# Altium schematic symbol library InverterSCHLib.SchLib: 137 symbols (part 4 of 5)
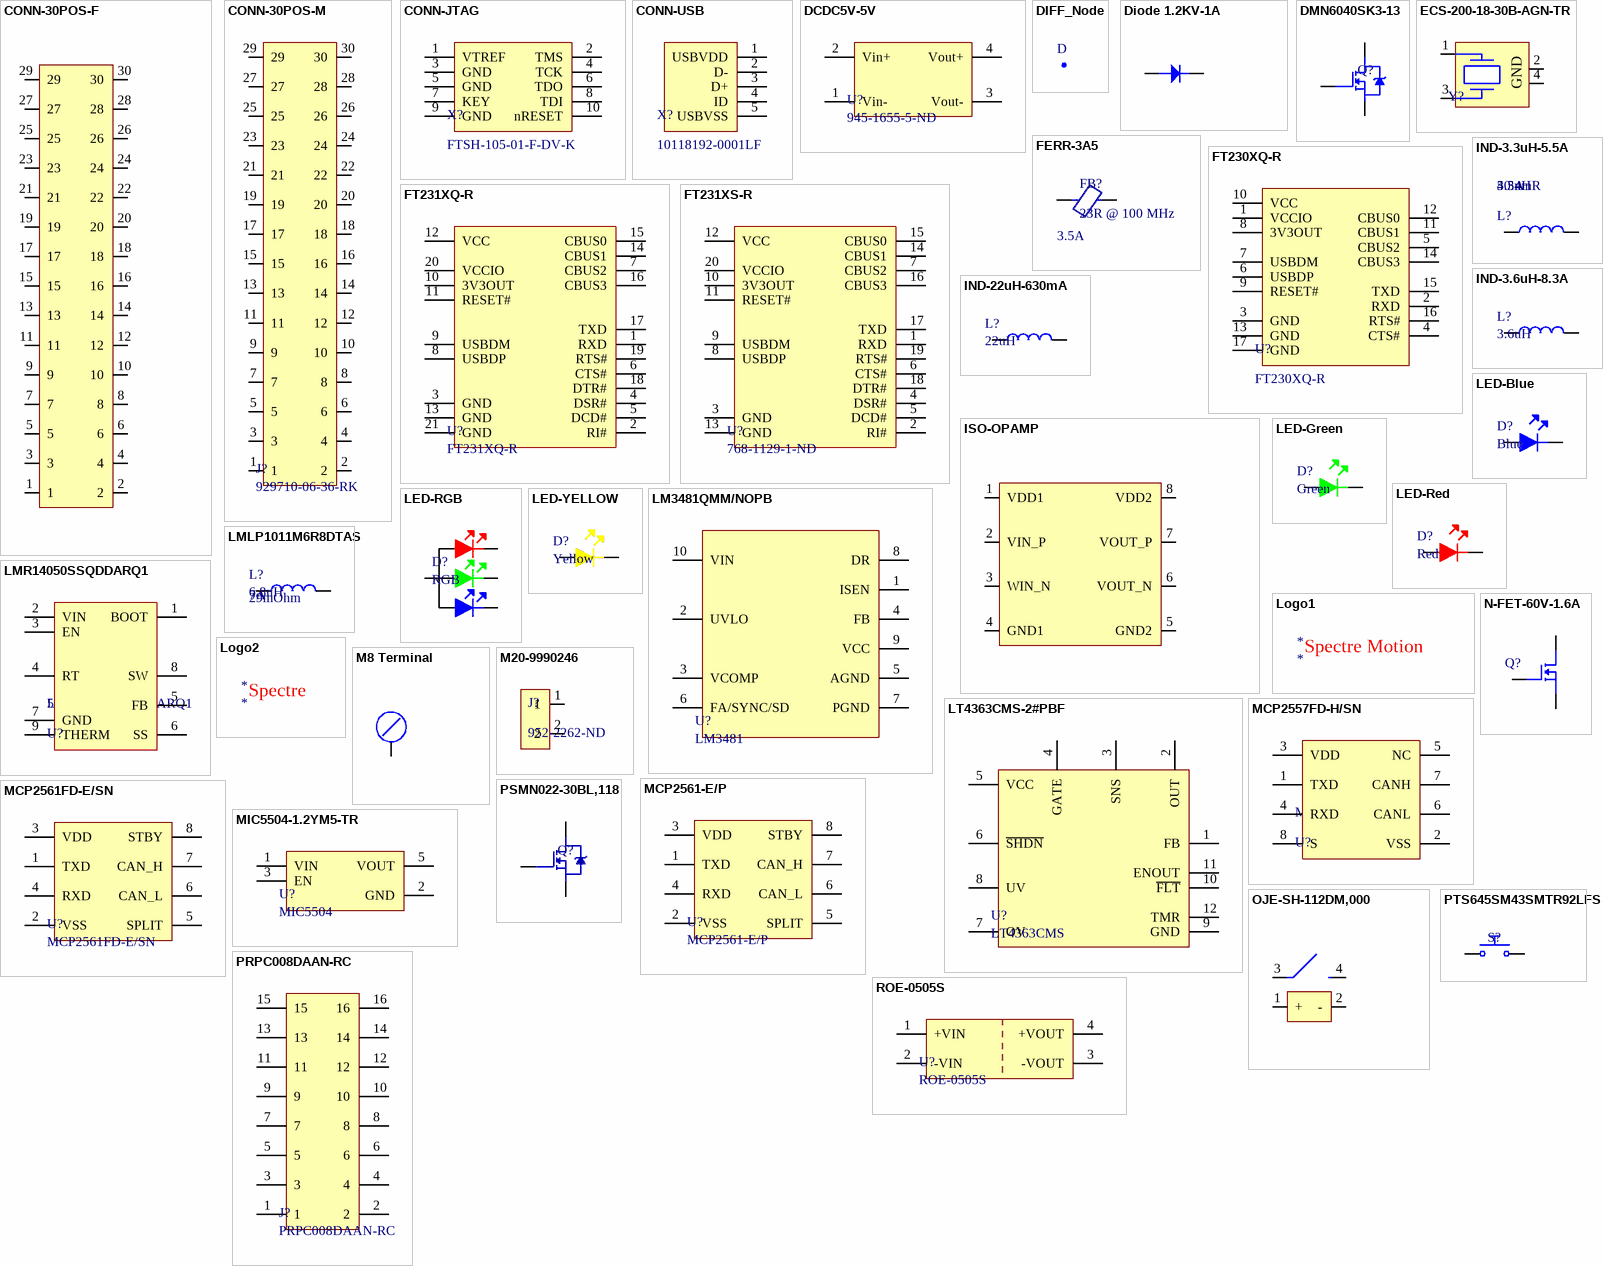
[diagram p6: symbols CONN-30POS-F to ROE-0505S]

## ISO-OPAMP
designator U?, comment AMC1200BDUBR
IC OPAMP ISOLATION 1 CIRC 8SOP; Manufacturer: Texas Instruments; Number of Channels: 1; Common Mode Rejection Ratio: 95dB; Operating Supply Voltage: 5.5V; -3db Bandwidth: 100kHz; Nominal Supply Current: 5.4mA; Output Current: 20mA; Max Input Voltage: 320mV; Input Offset Voltage (Vos): 200uV; Power Dissipation: 44mW; Power Supply Rejection Ratio (PSRR): 61dB; Dual Supply Voltage: 5V; Power Consumption: 82.5mW; Supplier 1: Digi-Key; Manufacturer Part Number: AMC1200BDUBR; Stock 1: 0; Pricing 1: 1=4.92, 10=4.415, 25=4.1736, 100=3.6172 (USD); Mount: Surface Mount; Case/Package: SOP; Number of Pins: 8; Min Operating Temperature: -40°C; Max Operating Temperature: 105°C; Max Dual Supply Voltage: 5.5V; Packaging: Tape and Reel; Package Quantity: 350; Bandwidth: 100kHz; Number of Circuits: 1; Operating Supply Current: 5.4mA; Output Current per Channel: 20mA; Max Power Dissipation: 44mW; Number of Elements: 1; Series: -; Amplifier Type: ISOLATION; Supply Current: 5.4mA; Lead Free: Lead Free; RoHS Compliant: Yes; ComponentLink1URL: http://www.ti.com/general/docs/lit/getliterature.tsp?genericPartNumber=AMC1200&&fileType=pdf&src-supplier=Avnet; ComponentLink1Description: http://www.ti.com/general/docs/lit/getliterature.tsp?genericPartNumber=AMC1200&&fileType=pdf&src-supplier=Avnet; ComponentLink2URL: http://www.ti.com/lit/ds/symlink/amc1200.pdf?src-supplier=Digi-Key; ComponentLink2Description: http://www.ti.com/lit/ds/symlink/amc1200.pdf?src-supplier=Digi-Key; Supplier Part Number 1: 296-38868-6-ND
footprint 8-SOP (SOP, 8-Leads, Body 9.29x6.62mm, Pitch 2.54mm, IPC Medium Density)
pins: 1 VDD1, 2 VIN_P, 3 WIN_N, 4 GND1, 5 GND2, 6 VOUT_N, 7 VOUT_P, 8 VDD2

## LED-Blue
designator D?, comment Blue
LED BLUE CLEAR 0603 SMD; Manufacturer: Wurth Electronics; Manufacturer Part Number: 150060BS75000; Luminous Intensity: 145mcd; Forward Current: 30mA; Forward Voltage: 3.2V; Wavelength: 470nm; Viewing Angle: 140°; Lens Style: Clear,Rectangular; Test Current: 20mA; Supplier 1: Digi-Key; Stock 1: 46078; Pricing 1: 1=0.16, 50=0.145, 100=0.125, 500=0.108 (USD); Mount: Surface Mount; Case/Package: 0603; Color: Blue; Case Code (Metric): 1608; Case Code (Imperial): 0603; Min Operating Temperature: -40°C; Max Operating Temperature: 85°C; Package Quantity: 4000; Packaging: Cut Tape; Dominant Wavelength: 470nm; Length: 1.6mm; Height: 0.7mm; Width: 0.8mm; REACH SVHC: Unknown; ComponentLink1URL: https://www.distrelec.biz/Web/Downloads/_t/ds/150060BS75000_eng_tds.pdf?mime=application%2Fpdf&src-supplier=Distrelec; ComponentLink1Description: https://www.distrelec.biz/Web/Downloads/_t/ds/150060BS75000_eng_tds.pdf?mime=application%2Fpdf&src-supplier=Distrelec; ComponentLink2URL: https://katalog.we-online.de/led/datasheet/150060BS75000.pdf?src-supplier=Digi-Key; ComponentLink2Description: https://katalog.we-online.de/led/datasheet/150060BS75000.pdf?src-supplier=Digi-Key; ComponentLink3URL: http://www.farnell.com/datasheets/1911343.pdf?src-supplier=Element14; ComponentLink3Description: http://www.farnell.com/datasheets/1911343.pdf?src-supplier=Element14; ComponentLink4URL: http://www.produktinfo.conrad.com/datenblaetter/750000-774999/759426-da-01-en-CHIPLED_0603_W_KL_BLAU_150060BS75000.pdf?src-supplier=Conrad; ComponentLink4Description: http://www.produktinfo.conrad.com/datenblaetter/750000-774999/759426-da-01-en-CHIPLED_0603_W_KL_BLAU_150060BS75000.pdf?src-supplier=Conrad; Supplier Part Number 1: 732-4966-6-ND
footprint LED-0603
pins: 1, 2

## LED-Green
designator D?, comment Green
LED GREEN CLEAR 0603 SMD; Manufacturer: Wurth Electronics; Manufacturer Part Number: 150060VS75000; Luminous Intensity: 40mcd; Viewing Angle: 140°; Forward Voltage: 2V; Wavelength: 570nm; Lens Style: Clear,Rectangular; Forward Current: 30mA; Test Current: 20mA; Supplier 1: Digi-Key; Stock 1: 118118; Pricing 1: 1=0.14, 50=0.133, 100=0.114, 500=0.099 (USD); Mount: Surface Mount; Case/Package: 0603; Number of Pins: 2; Color: Green; Case Code (Metric): 1608; Case Code (Imperial): 0603; Min Operating Temperature: -40°C; Max Operating Temperature: 85°C; Package Quantity: 1; Packaging: Tape and Reel; Dominant Wavelength: 570nm; Length: 1.6mm; Height: 0.7mm; Width: 0.8mm; REACH SVHC: Unknown; ComponentLink1URL: https://katalog.we-online.de/led/datasheet/150060VS75000.pdf?src-supplier=Digi-Key; ComponentLink1Description: https://katalog.we-online.de/led/datasheet/150060VS75000.pdf?src-supplier=Digi-Key; Supplier Part Number 1: 732-4980-1-ND
footprint LED-0603
pins: 1, 2

## LED-Red
designator D?, comment Red
LED RED CLEAR 0603 SMD; Manufacturer: Wurth Electronics; Manufacturer Part Number: 150060RS75000; Viewing Angle: 140°; Lens Style: Clear,Rectangular; Luminous Intensity: 250mcd; Forward Current: 30mA; Forward Voltage: 2V; Wavelength: 625nm; Test Current: 20mA; Supplier 1: Digi-Key; Stock 1: 18518; Pricing 1: 1=0.14, 50=0.133, 100=0.114, 500=0.099 (USD); Mount: Surface Mount; Case/Package: 0603; Color: Red; Case Code (Metric): 1608; Case Code (Imperial): 0603; Min Operating Temperature: -40°C; Max Operating Temperature: 85°C; Package Quantity: 1; Packaging: Cut Tape; Dominant Wavelength: 625nm; Length: 1.6mm; Height: 0.7mm; Width: 0.8mm; REACH SVHC: Unknown; ComponentLink1URL: https://katalog.we-online.de/led/datasheet/150060RS75000.pdf?src-supplier=Digi-Key; ComponentLink1Description: https://katalog.we-online.de/led/datasheet/150060RS75000.pdf?src-supplier=Digi-Key; ComponentLink2URL: http://www.produktinfo.conrad.com/datenblaetter/750000-774999/759428-da-01-en-CHIPLED_0603_W_KL_ROT_150060RS75000.pdf?src-supplier=Conrad; ComponentLink2Description: http://www.produktinfo.conrad.com/datenblaetter/750000-774999/759428-da-01-en-CHIPLED_0603_W_KL_ROT_150060RS75000.pdf?src-supplier=Conrad; Supplier Part Number 1: 732-4978-6-ND
footprint LED-0603
pins: 1, 2

## LED-RGB
designator D?, comment RGB
LED RGB CLEAR 4SMD; Manufacturer: Everlight; Manufacturer Part Number: EAST1616RGBB4; Color: Blue,Green,Red; Lens Color: Colorless; Lens Style: Flat; Element Configuration: Common Anode; Forward Voltage: 2.8V; Test Current: 5mA; Viewing Angle: 120°; Lens Size: 1.1mm; Supplier 1: Digi-Key; Stock 1: 11185; Pricing 1: 1=0.49, 10=0.343, 100=0.2003, 500=0.13736, 1000=0.11446 (USD); Mount: Surface Mount; Case/Package: 0606; Case Code (Imperial): 0606; Case Code (Metric): 1616; Packaging: Tape and Reel; Lens Transparency: Clear; Length: 1.6mm; Height: 0.45mm; Width: 1.6mm; ComponentLink1URL: https://everlightamericas.com/index.php?controller=attachment&amp;id_attachment=2827&src-supplier=Digi-Key; ComponentLink1Description: https://everlightamericas.com/index.php?controller=attachment&amp;id_attachment=2827&src-supplier=Digi-Key; ComponentLink2URL: https://everlightamericas.com/index.php?controller=attachment&id_attachment=2827&src-supplier=Digi-Key; ComponentLink2Description: https://everlightamericas.com/index.php?controller=attachment&id_attachment=2827&src-supplier=Digi-Key; Supplier Part Number 1: 1080-1552-6-ND
footprint LED-4SMD
pins: 1, 2, 3, 4

## LED-YELLOW
designator D?, comment Yellow
LED YELLOW CLEAR 0603 SMD; Manufacturer: Wurth Electronics; Manufacturer Part Number: 150060YS75000; Viewing Angle: 140°; Lens Style: Clear,Rectangular; Wavelength: 590nm; Luminous Intensity: 120mcd; Forward Voltage: 2V; Forward Current: 30mA; Test Current: 20mA; Supplier 1: Digi-Key; Stock 1: 129164; Pricing 1: 1=0.14, 50=0.133, 100=0.114, 500=0.099 (USD); Mount: Surface Mount; Case/Package: 0603; Case Code (Metric): 1608; Case Code (Imperial): 0603; Color: Yellow; Min Operating Temperature: -40°C; Max Operating Temperature: 85°C; Package Quantity: 4000; Packaging: Tape and Reel; Dominant Wavelength: 590nm; Length: 1.6mm; Width: 0.8mm; Height: 0.7mm; REACH SVHC: Unknown; RoHS Compliant: Yes; ComponentLink1URL: http://www.farnell.com/datasheets/1911348.pdf?src-supplier=Element14; ComponentLink1Description: http://www.farnell.com/datasheets/1911348.pdf?src-supplier=Element14; ComponentLink2URL: https://www.distrelec.biz/Web/Downloads/_t/ds/150060YS75000_eng_tds.pdf?mime=application%2Fpdf&src-supplier=Distrelec; ComponentLink2Description: https://www.distrelec.biz/Web/Downloads/_t/ds/150060YS75000_eng_tds.pdf?mime=application%2Fpdf&src-supplier=Distrelec; ComponentLink3URL: https://katalog.we-online.de/led/datasheet/150060YS75000.pdf?src-supplier=Digi-Key; ComponentLink3Description: https://katalog.we-online.de/led/datasheet/150060YS75000.pdf?src-supplier=Digi-Key; ComponentLink4URL: http://katalog.we-online.de/led/datasheet/150060YS75000.pdf?src-supplier=Newark; ComponentLink4Description: http://katalog.we-online.de/led/datasheet/150060YS75000.pdf?src-supplier=Newark; ComponentLink5URL: http://www.produktinfo.conrad.com/datenblaetter/750000-774999/759432-da-01-en-CHIPLED_0603_W_KL_GELB_150060YS75000.pdf?src-supplier=Conrad; ComponentLink5Description: http://www.produktinfo.conrad.com/datenblaetter/750000-774999/759432-da-01-en-CHIPLED_0603_W_KL_GELB_150060YS75000.pdf?src-supplier=Conrad; Supplier Part Number 1: 732-4981-1-ND
footprint LED-0603
pins: 1, 2

## LM3481QMM/NOPB
designator U?, comment LM3481
IC REG CTRLR MULT TOP 10MSOP; Manufacturer: TI National Semiconductor; Manufacturer Part Number: LM3481QMM/NOPB; Switching Frequency: 1MHz; Output Current: 1A; Number of Outputs: 1; Duty Cycle: 85%; Min Supply Voltage: 2.97V; Max Supply Voltage: 48V; Quiescent Current: 3.7mA; Supplier 1: Digi-Key; Stock 1: 0; Pricing 1: 1=2.02, 10=1.812, 25=1.7092, 100=1.4563, 250=1.3674, 500=1.19648 (USD); Mount: Surface Mount; Case/Package: VSSOP; Number of Pins: 10; Contact Plating: Tin; Min Operating Temperature: -40°C; Max Operating Temperature: 125°C; Packaging: Tape and Reel; Package Quantity: 1000; Series: LM3481-Q1; Max Frequency: 1MHz; Max Duty Cycle: 85%; Max Output Current: 1A; Features: UVLO; Radiation Hardening: No; REACH SVHC: No SVHC; RoHS Compliant: Yes; Lead Free: Lead Free; ComponentLink1URL: http://www.ti.com/general/docs/lit/getliterature.tsp?genericPartNumber=LM3481-Q1&&fileType=pdf&src-supplier=Avnet; ComponentLink1Description: http://www.ti.com/general/docs/lit/getliterature.tsp?genericPartNumber=LM3481-Q1&&fileType=pdf&src-supplier=Avnet; ComponentLink2URL: http://www.ti.com/lit/ds/symlink/lm3481.pdf?src-supplier=Digi-Key; ComponentLink2Description: http://www.ti.com/lit/ds/symlink/lm3481.pdf?src-supplier=Digi-Key; ComponentLink3URL: http://www.ti.com/general/docs/suppproductinfo.tsp?distId=10&amp;gotoUrl=http%3A%2F%2Fwww.ti.com%2Flit%2Fgpn%2Flm3481&src-supplier=Digi-Key; ComponentLink3Description: http://www.ti.com/general/docs/suppproductinfo.tsp?distId=10&amp;gotoUrl=http%3A%2F%2Fwww.ti.com%2Flit%2Fgpn%2Flm3481&src-supplier=Digi-Key; Supplier Part Number 1: LM3481QMM/NOPBDKR-ND
footprint 10-VSSOP-REGULATOR (TSSOP, 10-Leads, Body 3.00x3.00mm, Pitch 0.50mm, IPC Medium Density)
pins: 1 ISEN, 2 UVLO, 3 VCOMP, 4 FB, 5 AGND, 6 FA/SYNC/SD, 7 PGND, 8 DR, 9 VCC, 10 VIN

## LMLP1011M6R8DTAS
designator L?, comment 6.8uH  DC Resistance: 29mOhm  Current Rating: 7A
FIXED IND 6.8UH 6.5A 25MOHM SMD; Manufacturer: Kyocera AVX; Manufacturer Part Number: LMLP1011M6R8DTAS; Current - Saturation: 9A; Supplier 1: Digi-Key; Stock 1: 488; Pricing 1: 1=0.94, 10=0.827, 25=0.768, 50=0.6496, 100=0.5906, 250=0.5552 (USD); RoHS Compliant: Yes; Supplier Part Number 1: 478-LMLP1011M6R8DTASCT-ND
footprint INDM112100X40N (Molded Inductor, 2-Leads, Body 11.15x10.00mm, IPC Medium Density)
pins: 1, 2

## LMR14050SSQDDARQ1
designator U?  Output Current: 5A  Manufacturer Part Number: LMR14050SSQDDARQ1  (hidden comment: *)
IC REG BUCK ADJUSTABLE 5A 8SOPWR; Manufacturer: Texas Instruments; Number of Outputs: 1; Min Input Voltage: 4V; Max Input Voltage: 40V; Min Output Voltage: 800mV; Max Output Voltage: 28V; Switching Frequency: 2.5MHz; Synchronous Rectifier: No; Quiescent Current: 40uA; Output Configuration: Positive; Supplier 1: Digi-Key; Stock 1: 3564; Pricing 1: 1=3.5, 10=3.143, 25=2.9716, 100=2.5755, 250=2.4434, 500=2.19246, 1000=2.08082 (USD); Mount: Surface Mount; Case/Package: SOIC; Min Operating Temperature: -40°C; Max Operating Temperature: 125°C; Packaging: Tape and Reel; Output Type: Adjustable; Lead Free: Lead Free; RoHS Compliant: Yes; ComponentLink1URL: http://www.ti.com/lit/ds/symlink/lmr14050-q1.pdf?src-supplier=Digi-Key; ComponentLink1Description: http://www.ti.com/lit/ds/symlink/lmr14050-q1.pdf?src-supplier=Digi-Key; ComponentLink2URL: http://www.ti.com/general/docs/suppproductinfo.tsp?distId=10&amp;gotoUrl=http%3A%2F%2Fwww.ti.com%2Flit%2Fgpn%2Flmr14050-q1&src-supplier=Digi-Key; ComponentLink2Description: http://www.ti.com/general/docs/suppproductinfo.tsp?distId=10&amp;gotoUrl=http%3A%2F%2Fwww.ti.com%2Flit%2Fgpn%2Flmr14050-q1&src-supplier=Digi-Key; ComponentLink3URL: http://www.ti.com/lit/gpn/lmr14050-q1?src-supplier=Mouser; ComponentLink3Description: http://www.ti.com/lit/gpn/lmr14050-q1?src-supplier=Mouser; Supplier Part Number 1: 296-43402-1-ND
footprint 8-SOIC W THRM (SOIC, 8-Leads, Body 4.90x3.90mm, Pitch 1.27mm, Thermal Pad 3.20x2.50mm, IPC Medium Density)
pins: 1 BOOT, 2 VIN, 3 EN, 4 RT, 5 FB, 6 SS, 7 GND, 8 SW, 9 THERM

## Logo1
designator *
footprint Spectre-Logo1
text: Spectre Motion

## Logo2
designator *
footprint Spectre-Logo2
text: Spectre

## LT4363CMS-2#PBF
designator U?, comment LT4363CMS
IC SURGE STOPPER HV 12-MSOP; Manufacturer: Analog Devices / Linear Technology; Manufacturer Part Number: LT4363CMS-2#PBF; Min Supply Voltage: 4V; Max Supply Voltage: 80V; Clamping Voltage: 27V; Number of Circuits: 1; Supplier 1: Digi-Key; Stock 1: 1060; Pricing 1: 1=6.63, 10=5.954, 25=5.6288, 100=4.8781, 250=4.62796, 500=4.15266, 1000=3.54 (USD); Case/Package: MSOP; Number of Pins: 12; Min Operating Temperature: 0°C; Max Operating Temperature: 70°C; Package Quantity: 37; Packaging: Rail/Tube; Working Voltage: 80V; REACH SVHC: No SVHC; Lead Free: Lead Free; RoHS Compliant: Yes; ComponentLink1URL: http://www.farnell.com/datasheets/1720292.pdf?src-supplier=Farnell; ComponentLink1Description: http://www.farnell.com/datasheets/1720292.pdf?src-supplier=Farnell; ComponentLink2URL: http://www.farnell.com/datasheets/1720292.pdf?src-supplier=Element14; ComponentLink2Description: http://www.farnell.com/datasheets/1720292.pdf?src-supplier=Element14; ComponentLink3URL: http://www.farnell.com/datasheets/1720292.pdf?src-supplier=Newark; ComponentLink3Description: http://www.farnell.com/datasheets/1720292.pdf?src-supplier=Newark; ComponentLink4URL: http://www.farnell.com/datasheets/1563218.pdf?src-supplier=Newark; ComponentLink4Description: http://www.farnell.com/datasheets/1563218.pdf?src-supplier=Newark; ComponentLink5URL: http://www.linear.com/docs/44087?src-supplier=Digi-Key; ComponentLink5Description: http://www.linear.com/docs/44087?src-supplier=Digi-Key; Supplier Part Number 1: LT4363CMS-2#PBF-ND
footprint SSOP12-UVOV (TSSOP, 12-Leads, Body 4.04x3.00mm, Pitch 0.62mm, IPC Medium Density)
pins: 1 FB, 2 OUT, 3 SNS, 4 GATE, 5 VCC, 6 ~{SHDN}, 7 OV, 8 UV, 9 GND, 10 ~{FLT}, 11 ENOUT, 12 TMR

## M8 Terminal
designator J?
M8 Screw terminal for HV connections
footprint M8 Terminal
pins: 1

## M20-9990246
designator J?, comment 952-2262-ND
CONN HEADER VERT 2POS 2.54MM; Manufacturer: Harwin; Manufacturer Part Number: M20-9990246; Contact Resistance: 30mR; Max Current Rating: 3A; Number of Positions: 2; Gender: Male; Connector Type: Male Pin; Insulation Resistance: 10GR; Voltage Rating (AC): 750V; Supplier 1: Digi-Key; Stock 1: 53577; Pricing 1: 1=0.11, 10=0.099, 100=0.0609, 500=0.0504, 1000=0.0441, 5000=0.0378, 10000=0.0368 (USD); Case/Package: SIL; Colour: Black; Housing Colour: Black; Housing Material: Nylon; Contact Plating: Tin; Contact Material: Bronze,Brass; Min Operating Temperature: -40°C; Max Operating Temperature: 105°C; Package Quantity: 1000; Packaging: Bulk; Termination: Solder; Number of Rows: 1; Number of Contacts: 2; Orientation: Straight; Current Rating: 3A; Length: 5.08mm; Depth: 2.54mm; Pitch: 2.54mm; Contact Mating Length: 0.24inch; Radiation Hardening: No; REACH SVHC: No SVHC; ComponentLink1URL: https://datasheet.ciiva.com/8046/315376-8046930.pdf; ComponentLink1Description: https://datasheet.ciiva.com/8046/315376-8046930.pdf; ComponentLink2URL: https://datasheet.ciiva.com/6833/m20-999-6833368.pdf; ComponentLink2Description: https://datasheet.ciiva.com/6833/m20-999-6833368.pdf; ComponentLink3URL: https://datasheet.ciiva.com/11745/0900766b81034e61-11745755.pdf; ComponentLink3Description: https://datasheet.ciiva.com/11745/0900766b81034e61-11745755.pdf; ComponentLink4URL: https://datasheet.ciiva.com/22660/1830818-22660571.pdf; ComponentLink4Description: https://datasheet.ciiva.com/22660/1830818-22660571.pdf; ComponentLink5URL: https://datasheet.ciiva.com/26852/getdatasheetpartid-384170-26852203.pdf; ComponentLink5Description: https://datasheet.ciiva.com/26852/getdatasheetpartid-384170-26852203.pdf; Supplier Part Number 1: 952-2262-ND
footprint 2PIN_HEADER
pins: 1, 2

## MCP2557FD-H/SN
designator U?  Manufacturer Part Number: MCP2557FD-H/SN  (hidden comment: *)
IC TXRX CAN FD 8MBPS 8SOIC; Manufacturer: Microchip; Receiver Hysteresis: 200mV; Supplier 1: Digi-Key; Stock 1: 2218; Pricing 1: 1=0.83, 25=0.69, 100=0.63 (USD); Mount: Surface Mount; Case/Package: SOIC; Min Operating Temperature: -40°C; Max Operating Temperature: 150°C; Packaging: Rail/Tube; Lead Free: Lead Free; RoHS Compliant: Yes; ComponentLink1URL: http://www.microchip.com/mymicrochip/filehandler.aspx?ddocname=en585652&src-supplier=Digi-Key; ComponentLink1Description: http://www.microchip.com/mymicrochip/filehandler.aspx?ddocname=en585652&src-supplier=Digi-Key; Supplier Part Number 1: MCP2557FD-H/SN-ND
footprint 8-SOIC w/o THRM (SOIC, 8-Leads, Body 4.90x3.90mm, Pitch 1.27mm, IPC Medium Density)
pins: 1 TXD, 2 VSS, 3 VDD, 4 RXD, 5 NC, 6 CANL, 7 CANH, 8 S

## MCP2561-E/P
designator U?
CAN Transceiver 1Mbps 5V 125degC PDIP8; Manufacturer: Microchip; Propagation Delay: 125ns; Nominal Supply Current: 70mA; Max Supply Voltage: 5.5V; Min Supply Voltage: 4.5V; Number of Transmit Buffers: 1; Interface: CAN,LIN; Supplier 1: Digi-Key; Manufacturer Part Number: MCP2561-E/P; Stock 1: 706; Pricing 1: 1=0.99, 25=0.83, 100=0.75 (USD); Mount: Through Hole; Case/Package: PDIP; Number of Pins: 8; Min Operating Temperature: -40°C; Max Operating Temperature: 125°C; Data Rate: 1Mbps; Packaging: Rail/Tube; Package Quantity: 60; Number of Receive Buffers: 1; Number of Receivers: 1; Turn-On Delay Time: 125ns; Number of Transceivers: 1; Max Supply Current: 70mA; Number of Drivers: 1; Logic Function: Transceiver; Length: 10.2mm; Width: 7.1mm; Height: 5mm; Radiation Hardening: No; REACH SVHC: No SVHC; RoHS Compliant: Yes; ComponentLink1URL: https://www.distrelec.biz/Web/Downloads/_t/ds/MCP2561_eng_tds.pdf?mime=application%2Fpdf&src-supplier=Distrelec; ComponentLink1Description: https://www.distrelec.biz/Web/Downloads/_t/ds/MCP2561_eng_tds.pdf?mime=application%2Fpdf&src-supplier=Distrelec; ComponentLink2URL: http://www.mouser.com/ds/2/268/25167B-245700.pdf?src-supplier=Mouser; ComponentLink2Description: http://www.mouser.com/ds/2/268/25167B-245700.pdf?src-supplier=Mouser; ComponentLink3URL: http://ww1.microchip.com/downloads/en/DeviceDoc/25167B.pdf?src-supplier=Avnet; ComponentLink3Description: http://ww1.microchip.com/downloads/en/DeviceDoc/25167B.pdf?src-supplier=Avnet; ComponentLink4URL: http://www.microchip.com/mymicrochip/filehandler.aspx?ddocname=en561044&src-supplier=Digi-Key; ComponentLink4Description: http://www.microchip.com/mymicrochip/filehandler.aspx?ddocname=en561044&src-supplier=Digi-Key; ComponentLink5URL: http://www.onlinecomponents.com/productFiles/mf-MIP/21125167b.pdf?src-supplier=Onlinecomponents.com; ComponentLink5Description: http://www.onlinecomponents.com/productFiles/mf-MIP/21125167b.pdf?src-supplier=Onlinecomponents.com; Supplier Part Number 1: MCP2561-E/P-ND
pins: 1 TXD, 2 VSS, 3 VDD, 4 RXD, 5 SPLIT, 6 CAN_L, 7 CAN_H, 8 STBY

## MCP2561FD-E/SN
designator U?
CAN Interface IC CAN Flexible Data Rate Transceiver; Manufacturer: Microchip; Number of Receivers: 1; Data Rate: 8Mbps; Min Supply Voltage: 4.5V; Max Supply Voltage: 5.5V; Max Supply Current: 70mA; Receiver Hysteresis: 200mV; Supplier 1: Digi-Key; Manufacturer Part Number: MCP2561FD-E/SN; Stock 1: 0; Pricing 1: 1=0.97, 25=0.81, 100=0.74 (USD); Mount: Surface Mount; Case/Package: SOIC; Number of Pins: 8; Weight: 0.019048oz; Min Operating Temperature: -40°C; Max Operating Temperature: 125°C; Packaging: Rail/Tube; Number of Transceivers: 1; Logic Function: Transceiver; Interface: CAN; Number of Drivers: 1; Number of Transmit Buffers: 1; Number of Receive Buffers: 1; Operating Supply Current: 70mA; Package Quantity: 100; Length: 4.9mm; Width: 3.9mm; Height: 1.5mm; REACH SVHC: No SVHC; Lead Free: Lead Free; ComponentLink1URL: https://www.distrelec.biz/Web/Downloads/_t/ds/MCP2561FD_eng_tds.pdf?mime=application%2Fpdf&src-supplier=Distrelec; ComponentLink1Description: https://www.distrelec.biz/Web/Downloads/_t/ds/MCP2561FD_eng_tds.pdf?mime=application%2Fpdf&src-supplier=Distrelec; ComponentLink2URL: http://www.farnell.com/datasheets/1821190.pdf?src-supplier=Element14; ComponentLink2Description: http://www.farnell.com/datasheets/1821190.pdf?src-supplier=Element14; ComponentLink3URL: http://ww1.microchip.com/downloads/en/DeviceDoc/20005284A.pdf?src-supplier=Avnet; ComponentLink3Description: http://ww1.microchip.com/downloads/en/DeviceDoc/20005284A.pdf?src-supplier=Avnet; Supplier Part Number 1: MCP2561FD-E/SN-ND
footprint 8-SOIC_MCP2561 (SOIC, 8-Leads, Body 4.90x3.90mm, Pitch 1.27mm, IPC Medium Density)
pins: 1 TXD, 2 VSS, 3 VDD, 4 RXD, 5 SPLIT, 6 CAN_L, 7 CAN_H, 8 STBY

## MIC5504-1.2YM5-TR
designator U?, comment MIC5504
Single 300mA LDO with Enable Pull-Down & Auto Discharge 5 SOT-23 T/R RoHS Compliant: Yes; Manufacturer: Microchip; Manufacturer Part Number: MIC5504-1.2YM5-TR; Output Voltage: 1.2V; Dropout Voltage: 160mV; Number of Regulators: 1; Min Current Limit: 400mA; Supplier 1: Digi-Key; Stock 1: 6608; Pricing 1: 1=0.13, 25=0.09, 100=0.08 (USD); Mount: Surface Mount; Case/Package: SOT-23-5; Min Operating Temperature: -40°C; Max Operating Temperature: 125°C; Packaging: Cut Tape; Output Current: 300mA; RoHS Compliant: Yes; ComponentLink1URL: http://www.microchip.com/mymicrochip/filehandler.aspx?ddocname=en580292&src-supplier=Digi-Key; ComponentLink1Description: http://www.microchip.com/mymicrochip/filehandler.aspx?ddocname=en580292&src-supplier=Digi-Key; Supplier Part Number 1: 576-4878-6-ND
footprint SOT23-5-MIC5504 (SOT23, 5-Leads, Body 2.90x2.80mm, Pitch 0.95mm, IPC Medium Density)
pins: 1 VIN, 2 GND, 3 EN, 5 VOUT

## N-FET-60V-1.6A
designator Q?, comment DMN6140L-13DICT-ND  (value not drawn)
MOSFET N-CH 60V 1.6A SOT23; Manufacturer: Diodes; Rds On Max: 140mR; Input Capacitance: 315pF; Max Power Dissipation: 700mW; Supplier 1: Digi-Key; Manufacturer Part Number: DMN6140L-13; Stock 1: 274948; Pricing 1: 1=0.34, 10=0.256, 25=0.224, 100=0.1217, 250=0.12104, 500=0.09926, 1000=0.07365, 2500=0.06468, 5000=0.05924 (USD); Mount: Surface Mount; Case/Package: TO-236-3; Min Operating Temperature: -55°C; Max Operating Temperature: 150°C; Package Quantity: 10000; Packaging: Cut Tape; Drain to Source Voltage (Vdss): 60V; Continuous Drain Current (ID): 1.6A; ComponentLink1URL: https://www.diodes.com/assets/Datasheets/DMN6140L.pdf?src-supplier=Digi-Key; ComponentLink1Description: https://www.diodes.com/assets/Datasheets/DMN6140L.pdf?src-supplier=Digi-Key; Supplier Part Number 1: DMN6140L-13DIDKR-ND
footprint SOT-23-3 (SOT23, 3-Leads, Body 2.90x2.40mm, Pitch 0.92mm, IPC Medium Density)
pins: 1, 2, 3

## OJE-SH-112DM,000
designator K?, comment 5A-12V Relay
General Purpose Relay SPST-NO (1 Form A) 12VDC Coil Through Hole; Manufacturer: TE Connectivity; Manufacturer Part Number: OJE-SH-112DM,000; Contact Current Rating: 5A; Coil Current: 37.5mA; Throw Configuration: SPST; Operate Time: 10ms; Release Time: 4ms; Coil Power: 500mW; Coil Resistance: 320R; Coil Type: Non-Latching; Coil Voltage (DC): 12V; Contact Voltage Rating (DC): 30V; Max Voltage Rating (AC): 265V; Supplier 1: Digi-Key; Stock 1: 912; Pricing 1: 1=1.18, 10=1.105, 25=0.9824, 50=0.9334, 100=0.8843, 250=0.78608, 500=0.73696, 1000=0.68782, 5000=0.66326 (USD); Mount: Through Hole; Number of Pins: 4; Contact Material: Silver; Weight: 9g; Min Operating Temperature: -30°C; Max Operating Temperature: 85°C; Package Quantity: 100; Packaging: Tray; Termination: PCB; Relay Type: General Purpose; Series: OJE, OEG; Max Voltage Rating (DC): 30V; Length: 0.717inch; Width: 0.4inch; Height: 14.7mm; RoHS Compliant: Yes; REACH SVHC: Unknown; Lead Free: Lead Free; ComponentLink1URL: http://www.farnell.com/datasheets/1846831.pdf?src-supplier=Farnell; ComponentLink1Description: http://www.farnell.com/datasheets/1846831.pdf?src-supplier=Farnell; ComponentLink2URL: http://www.onlinecomponents.com/productFiles/mf-PB/ojojeseries.pdf?src-supplier=Onlinecomponents.com; ComponentLink2Description: http://www.onlinecomponents.com/productFiles/mf-PB/ojojeseries.pdf?src-supplier=Onlinecomponents.com; Supplier Part Number 1: PB875-ND
footprint Relay
pins: 1 +, 2 -, 3, 4

## PRPC008DAAN-RC
designator J?
CONN HEADER VERT 16POS 2.54MM; Manufacturer: Sullins; Number of Positions: 16; Connector Type: Male Pin; Pitch: 0.1inch; Supplier 1: Digi-Key; Manufacturer Part Number: PRPC008DAAN-RC; Stock 1: 10217; Pricing 1: 1=0.46, 10=0.433, 25=0.3716, 50=0.3158, 100=0.3034, 250=0.27244, 500=0.26006 (USD); Mount: Through Hole; Color: Black; Contact Plating: Gold; Package Quantity: 1; Number of Rows: 2; Packaging: Bulk; Termination: Solder; Series: -; Contact Type: Male Pin; Row Spacing: 0.1inch; Contact Mating Length: 0.23inch; RoHS Compliant: Yes; ComponentLink1URL: https://drawings-pdf.s3.amazonaws.com/11636.pdf?src-supplier=Digi-Key; ComponentLink1Description: https://drawings-pdf.s3.amazonaws.com/11636.pdf?src-supplier=Digi-Key; Supplier Part Number 1: S2011EC-08-ND
footprint 16PIN_HEADER
pins: 1, 2, 3, 4, 5, 6, 7, 8, 9, 10, 11, 12, 13, 14, 15, 16

## PSMN022-30BL,118
designator Q?, comment PSMN022-30BL  (value not drawn)
Trans MOSFET N-CH 30V 30A 3-Pin(2+Tab) D2PAK T/R; Manufacturer: NXP Semiconductors; Manufacturer Part Number: PSMN022-30BL,118; Rds On Max: 22.6mR; Input Capacitance: 447pF; Rise Time: 29ns; Max Power Dissipation: 41W; Gate to Source Voltage (Vgs): 20V; Turn-On Delay Time: 12ns; Turn-Off Delay Time: 17ns; Fall Time: 7ns; Number of Elements: 1; Element Configuration: Single; Polarity: N-CHANNEL; Supplier 1: Digi-Key; Stock 1: 3131; Pricing 1: 1=0.78, 10=0.675, 25=0.6436, 100=0.4673 (USD); Case/Package: SOT; Number of Pins: 3; Contact Plating: Tin; Min Operating Temperature: -55°C; Max Operating Temperature: 175°C; Package Quantity: 1; Packaging: Tape and Reel; Max Dual Supply Voltage: 30V; Drain to Source Voltage (Vdss): 30V; Continuous Drain Current (ID): 30A; Drain to Source Breakdown Voltage: 30V; Drain to Source Resistance: 22.6mR; Power Dissipation: 41W; Series: -; Radiation Hardening: No; RoHS Compliant: Yes; Lead Free: Lead Free; ComponentLink1URL: http://www.nxp.com/documents/data_sheet/PSMN022-30BL.pdf?src-supplier=Digi-Key; ComponentLink1Description: http://www.nxp.com/documents/data_sheet/PSMN022-30BL.pdf?src-supplier=Digi-Key; ComponentLink2URL: http://www.nxp.com/documents/data_sheet/PSMN022-30BL.pdf?src-supplier=Mouser; ComponentLink2Description: http://www.nxp.com/documents/data_sheet/PSMN022-30BL.pdf?src-supplier=Mouser; ComponentLink3URL: http://www.nxp.com/documents/data_sheet/PSMN022-30BL.pdf?src-supplier=Avnet; ComponentLink3Description: http://www.nxp.com/documents/data_sheet/PSMN022-30BL.pdf?src-supplier=Avnet; Supplier Part Number 1: 1727-7117-6-ND
footprint DPAK2_FETs (D2-PAK, 3-Pads, Body 7.65x8.36mm (max), IPC Medium Density)
pins: 1, 3, 4

## PTS645SM43SMTR92LFS
designator S?  (value not drawn)
SWITCH TACTILE SPST-NO 0.05A 12V; Manufacturer: ITT C&K; Mechanical Life: 100000Cycles; Actuator Material: Nylon,Polyamide; Throw Configuration: SPST; Contact Resistance: 100mR; Operating Force: 160gf; Max Current Rating: 50mA; Illumination Type: Non-Illuminated,Illuminated; Switch Function: Off-Mom; Actuator Length: 0.85mm; Supplier 1: Digi-Key; Manufacturer Part Number: PTS645SM43SMTR92LFS; Stock 1: 188827; Pricing 1: 1=0.16, 10=0.157, 25=0.1516, 50=0.1462, 100=0.1381, 250=0.13, 500=0.1245 (USD); Mount: Surface Mount; Case/Package: SMD/SMT; Contact Plating: Silver; Contact Material: Silver; Colour: Black; Min Operating Temperature: -20°C; Max Operating Temperature: 60°C; Max Voltage Rating (DC): 12V; Packaging: Tape and Reel; Package Quantity: 1000; Current Rating: 50mA; Voltage Rating (DC): 12V; Termination: Gull Wing; Orientation: Straight; Length: 6mm; Depth: 9mm; REACH SVHC: No SVHC; Lead Free: Lead Free; ComponentLink1URL: https://datasheet.ciiva.com/29903/getdatasheetpartid-786341-29903846.pdf; ComponentLink1Description: https://datasheet.ciiva.com/29903/getdatasheetpartid-786341-29903846.pdf; ComponentLink2URL: https://datasheet.ciiva.com/14920/pts645-14920733.pdf; ComponentLink2Description: https://datasheet.ciiva.com/14920/pts645-14920733.pdf; ComponentLink3URL: https://datasheet.ciiva.com/14920/pts645-14920734.pdf; ComponentLink3Description: https://datasheet.ciiva.com/14920/pts645-14920734.pdf; ComponentLink4URL: https://datasheet.ciiva.com/14920/pts645-14920735.pdf; ComponentLink4Description: https://datasheet.ciiva.com/14920/pts645-14920735.pdf; ComponentLink5URL: https://datasheet.ciiva.com/29931/getdatasheetpartid-764615-29931183.pdf; ComponentLink5Description: https://datasheet.ciiva.com/29931/getdatasheetpartid-764615-29931183.pdf; Supplier Part Number 1: CKN9112CT-ND
footprint PUSH_BUTTON
pins: 1, 2

## ROE-0505S
designator U?
Module DC-DC 5VIN 1-OUT 5V 0.2A 1W 4-Pin SIP Tube; Manufacturer: Recom; Min Input Voltage: 4.5V; Max Input Voltage: 5.5V; Number of Outputs: 1; Max Output Current: 200mA; Efficiency: 75%; Isolation Voltage: 1kV; Isolation: Isolated; Supplier 1: Digi-Key; Stock 1: 9959; Pricing 1: 1=2.86, 5=2.822, 10=2.782, 25=2.6996, 50=2.618, 100=2.5361, 250=2.45432, 500=2.29068 (USD); Mount: Through Hole; Case/Package: SIP; Number of Pins: 4; Weight: 1.4g; Min Operating Temperature: -40°C; Max Operating Temperature: 85°C; Nominal Output Voltage: 5V; Output Current: 200mA; Output Voltage: 5V; Power Rating: 1W; Nominal Input Voltage: 5V; Output Power: 1W; Package Quantity: 42; Packaging: Rail/Tube; Min Input Voltage (DC): 4.5V; Voltage - Output 1: 5V; Current - Output 1: 200mA; Max Input Voltage (DC): 5.5V; Max Output Power: 1W; Max Power Dissipation: 1W; Max Output Voltage: 5V; Series: ROE; Length: 11.5mm; Width: 6mm; Height: 10mm; Depth: 6mm; REACH SVHC: No SVHC; Lead Free: Lead Free; RoHS Compliant: Yes; ComponentLink1URL: http://www.farnell.com/datasheets/2787770.pdf?src-supplier=Element14; ComponentLink1Description: http://www.farnell.com/datasheets/2787770.pdf?src-supplier=Element14; ComponentLink2URL: http://uk.rs-online.com/webdocs/1373/0900766b81373201.pdf?src-supplier=RSComponents; ComponentLink2Description: http://uk.rs-online.com/webdocs/1373/0900766b81373201.pdf?src-supplier=RSComponents; ComponentLink3URL: http://www.mouser.com/ds/2/468/ROE-766139.pdf?src-supplier=Mouser; ComponentLink3Description: http://www.mouser.com/ds/2/468/ROE-766139.pdf?src-supplier=Mouser; ComponentLink4URL: https://www.recom-power.com/pdf/Econoline/ROE.pdf?src-supplier=Digi-Key; ComponentLink4Description: https://www.recom-power.com/pdf/Econoline/ROE.pdf?src-supplier=Digi-Key; ComponentLink5URL: http://www.recom-international.com/pdf/Econoline/ROE.pdf?src-supplier=Future+Electronics; ComponentLink5Description: http://www.recom-international.com/pdf/Econoline/ROE.pdf?src-supplier=Future+Electronics; ComponentLink6URL: http://www.produktinfo.conrad.com/datenblaetter/675000-699999/676228-da-01-en-DC_DC_WANDLER_ROE_0505S.pdf?src-supplier=Conrad; ComponentLink6Description: http://www.produktinfo.conrad.com/datenblaetter/675000-699999/676228-da-01-en-DC_DC_WANDLER_ROE_0505S.pdf?src-supplier=Conrad; Supplier Part Number 1: 945-1655-5-ND; Manufacturer Part Number: ROE-0505S
footprint ROE-0505S
pins: 1 +VIN, 2 -VIN, 3 -VOUT, 4 +VOUT

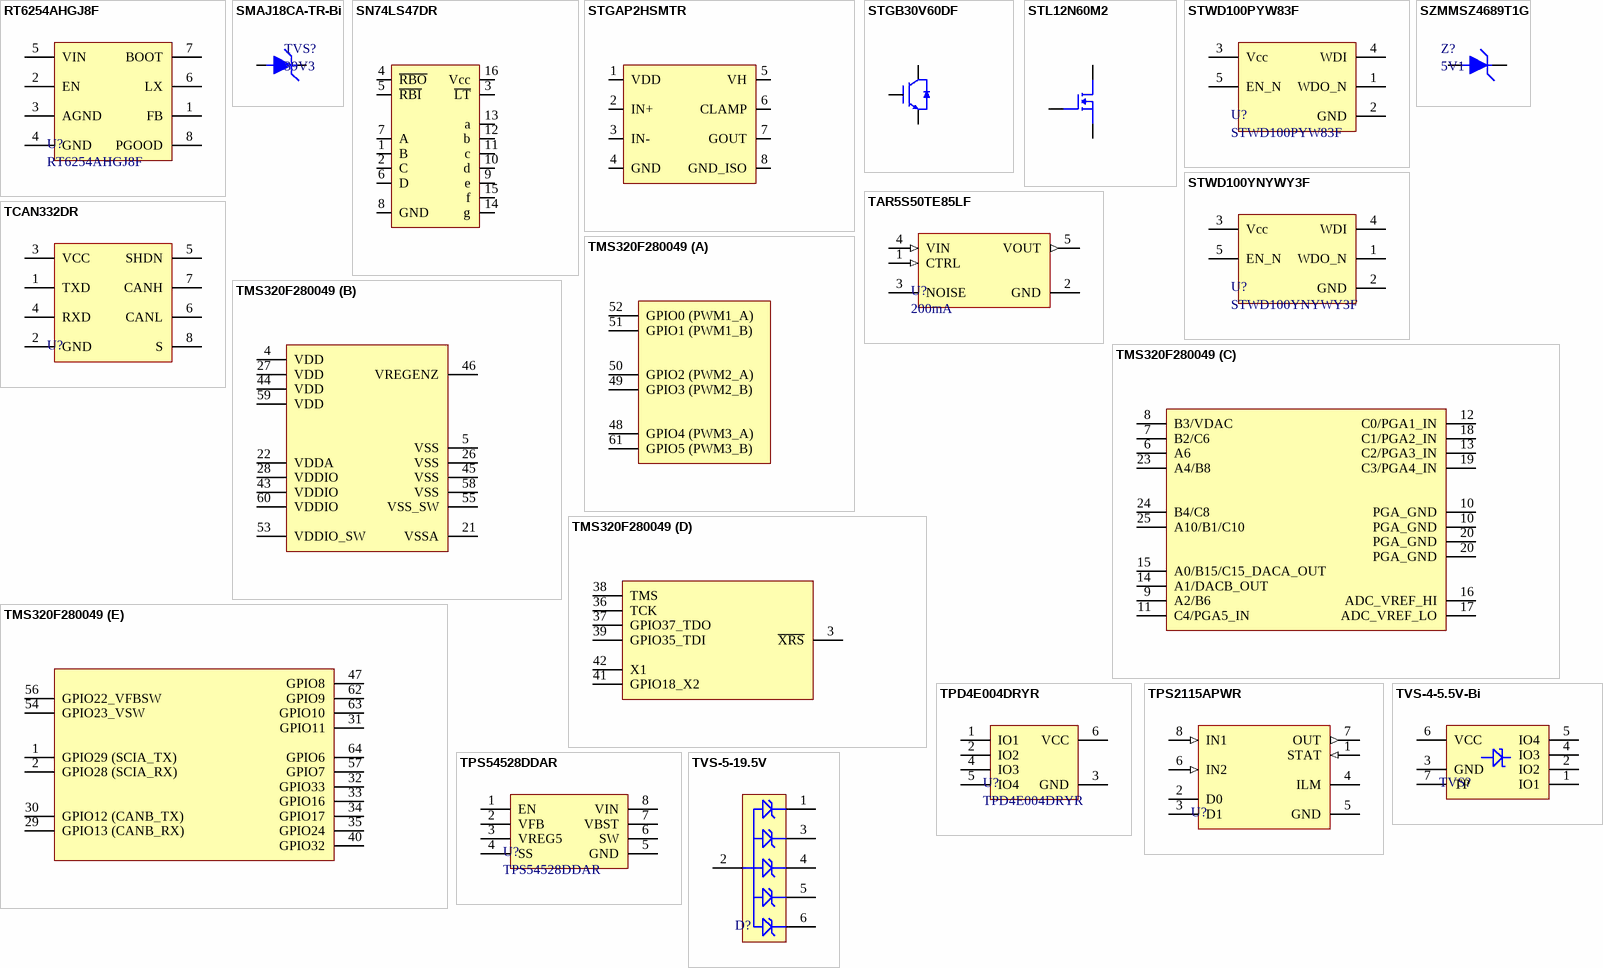
[diagram p3: symbols RT6254AHGJ8F to TVS-5-19.5V]

## RT6254AHGJ8F
designator U?
IC REG BUCK ADJ 4A SYNC TSOT23-8; Manufacturer: Richtek; Number of Outputs: 1; Min Input Voltage: 4.5V; Max Input Voltage: 18V; Min Output Voltage: 600mV; Max Output Voltage: 5V; Switching Frequency: 500kHz; Synchronous Rectifier: Yes; Output Type: Adjustable; Output Configuration: Positive; Supplier 1: Digi-Key; Manufacturer Part Number: RT6254AHGJ8F; Stock 1: 4724; Pricing 1: 1=1.57, 10=1.407, 25=1.3356, 100=1.0971, 250=1.02556, 500=0.9063, 1000=0.7155 (USD); Min Operating Temperature: -40°C; Max Operating Temperature: 85°C; Output Current: 4A; ComponentLink1URL: http://www.richtek.com/assets/product_file/RT6254A=RT6254B/DS6254AB-00.pdf?src-supplier=Digi-Key; ComponentLink1Description: http://www.richtek.com/assets/product_file/RT6254A=RT6254B/DS6254AB-00.pdf?src-supplier=Digi-Key; Supplier Part Number 1: RT6254AHGJ8FCT-ND
footprint TSOT-23-8-5V/5V-DCDC
pins: 1 FB, 2 EN, 3 AGND, 4 GND, 5 VIN, 6 LX, 7 BOOT, 8 PGOOD

## SMAJ18CA-TR-Bi
designator TVS?, comment 39V3
TVS DIODE 18VWM 39.3VC SMA; Manufacturer: STMicroelectronics; Manufacturer Part Number: SMAJ18CA-TR; Direction: Bidirectional; Reverse Breakdown Voltage: 20V; Operating Supply Voltage: 18V; Capacitance: 800pF; Max Surge Current: 13.7A; Number of Elements: 1; Clamping Voltage: 39.3V; Peak Pulse Power: 400W; Power Line Protection: No; Breakdown Voltage: 21.1V; Peak Pulse Current: 59A; Test Current: 1mA; ESD Protection: Yes; Max Reverse Leakage Current: 200nA; Max Power Dissipation: 3.3W; Element Configuration: Single; Diode Type: ZENER; Supplier 1: Digi-Key; Stock 1: 8232; Pricing 1: 1=0.38, 10=0.311, 100=0.2117, 500=0.15874, 1000=0.11906, 2000=0.1092 (USD); Mount: Surface Mount; Case/Package: SMA; Number of Pins: 2; Min Operating Temperature: -55°C; Max Operating Temperature: 150°C; Packaging: Tape and Reel; Package Quantity: 1; Number of Bidirectional Channels: 1; Reverse Standoff Voltage: 18V; Min Breakdown Voltage: 20V; Number of Channels: 1; Polarity: Bidirectional; Termination: SMD/SMT; Max Breakdown Voltage: 21.1V; Power Dissipation: 400W; Leakage Current: 200nA; Voltage Rating (DC): 18V; Resistor Type: Zener; Series: SMAJ, TRANSIL™; Clamping Voltage-Max: 39.3V; Length: 4.6mm; Width: 2.9mm; Height: 2.45mm; Radiation Hardening: No; REACH SVHC: No SVHC; Lead Free: Lead Free; RoHS Compliant: Yes; ComponentLink1URL: http://www.farnell.com/datasheets/1724007.pdf?src-supplier=Element14; ComponentLink1Description: http://www.farnell.com/datasheets/1724007.pdf?src-supplier=Element14; ComponentLink2URL: http://www.st.com/content/ccc/resource/technical/document/datasheet/ff/c0/80/cc/19/4c/45/af/CD00001333.pdf/files/CD00001333.pdf/_jcr_content/translations/en.CD00001333.pdf?src-supplier=Digi-Key; ComponentLink2Description: http://www.st.com/content/ccc/resource/technical/document/datasheet/ff/c0/80/cc/19/4c/45/af/CD00001333.pdf/files/CD00001333.pdf/_jcr_content/translations/en.CD00001333.pdf?src-supplier=Digi-Key; ComponentLink3URL: http://www.mouser.com/ds/2/389/smaj-955168.pdf?src-supplier=Mouser; ComponentLink3Description: http://www.mouser.com/ds/2/389/smaj-955168.pdf?src-supplier=Mouser; ComponentLink4URL: http://www.st.com/web/en/resource/technical/document/datasheet/CD00001333.pdf?src-supplier=Future+Electronics; ComponentLink4Description: http://www.st.com/web/en/resource/technical/document/datasheet/CD00001333.pdf?src-supplier=Future+Electronics; ComponentLink5URL: https://www.verical.com/server-webapp/html/getDatasheet?partID=83400&src-supplier=Verical; ComponentLink5Description: https://www.verical.com/server-webapp/html/getDatasheet?partID=83400&src-supplier=Verical; ComponentLink6URL: http://www.produktinfo.conrad.com/datenblaetter/1100000-1199999/001184239-da-01-en-TRANSIL_400W_18_SMAJ18CA_TR_DO_214AC_STM.pdf?src-supplier=Conrad; ComponentLink6Description: http://www.produktinfo.conrad.com/datenblaetter/1100000-1199999/001184239-da-01-en-TRANSIL_400W_18_SMAJ18CA_TR_DO_214AC_STM.pdf?src-supplier=Conrad; Supplier Part Number 1: 497-7446-1-ND
footprint DO-214AC (Molded Diode, 2-Leads, Body 5.24x2.61mm, IPC Medium Density)
pins: 1, 2

## SN74LS47DR
designator U?
IC DRVR 7 SEGMENT 16SOIC; Manufacturer: Texas Instruments; Operating Supply Voltage: 5V; Logic Function: Demultiplexer,Decoder; Bandwidth: 35MHz; Number of Bits: 7; Polarity: Inverting; Quiescent Current: 7mA; Max Supply Voltage: 5.25V; Low Level Output Current: 3.2mA; High Level Output Current: -50uA; Min Supply Voltage: 4.75V; Number of Channels: 1; Supplier 1: Digi-Key; Manufacturer Part Number: SN74LS47DR; Stock 1: 311; Pricing 1: 1=1.62, 10=1.451, 25=1.3772, 100=1.1312, 250=1.05744, 500=0.86072, 1000=0.812 (USD); Mount: Surface Mount; Case/Package: SOIC; Contact Plating: Gold; Min Operating Temperature: 0°C; Max Operating Temperature: 70°C; Radiation Hardening: No; RoHS Compliant: Yes; Lead Free: Lead Free; ComponentLink1URL: http://www.ti.com/general/docs/lit/getliterature.tsp?genericPartNumber=SN54LS47&&fileType=pdf&src-supplier=Avnet; ComponentLink1Description: http://www.ti.com/general/docs/lit/getliterature.tsp?genericPartNumber=SN54LS47&&fileType=pdf&src-supplier=Avnet; Supplier Part Number 1: 296-46894-6-ND
footprint SOIC16 (SOIC, 16-Leads, Body 9.90x3.90mm, Pitch 1.27mm, IPC Medium Density)
pins: 1 B, 2 C, 3 ~{LT}, 4 ~{RBO}, 5 ~{RBI}, 6 D, 7 A, 8 GND, 9 e, 10 d, 11 c, 12 b, 13 a, 14 g, 15 f, 16 Vcc

## STGAP2HSMTR
designator U?
GALVANICALLY ISOLATED 4 A SINGLE GATE DRIVER; Manufacturer: Samtec; Manufacturer Part Number: ERF8-010-07.0-L-DV-L-K-TR; Supplier 1: Digi-Key; Stock 1: 498; Pricing 1: 1=3.01, 10=2.699, 25=2.5516, 100=2.2113, 250=2.09788, 500=1.88242 (USD); Supplier Part Number 1: 497-STGAP2HSMDKR-ND
footprint SO-8W (SOP, 8-Leads, Body 5.85x7.49mm, Pitch 1.27mm, IPC Medium Density)
pins: 1 VDD, 2 IN+, 3 IN-, 4 GND, 5 VH, 6 CLAMP, 7 GOUT, 8 GND_ISO

## STGB30V60DF
designator Q?
IGBT 600V 60A 258W D2PAK; Manufacturer: STMicroelectronics; Reverse Recovery Time: 53ns; Element Configuration: Single; Collector Emitter Saturation Voltage: 1.85V; Supplier 1: Digi-Key; Manufacturer Part Number: STGB30V60DF; Stock 1: 916; Pricing 1: 1=2.43, 10=2.015, 25=1.9496, 100=1.604, 500=1.358 (USD); Mount: Surface Mount; Case/Package: TO-263-3; Weight: 0.079014oz; Min Operating Temperature: -55°C; Max Operating Temperature: 175°C; Packaging: Tape and Reel; Collector Emitter Voltage (VCEO): 600V; Max Collector Current: 60A; Max Power Dissipation: 258W; Collector Emitter Breakdown Voltage: 600V; Max Breakdown Voltage: 600V; Package Quantity: 1000; RoHS Compliant: Yes; ComponentLink1URL: http://www.st.com/content/ccc/resource/technical/document/datasheet/14/ad/1c/bd/db/a9/4a/fc/DM00079435.pdf/files/DM00079435.pdf/jcr:content/translations/en.DM00079435.pdf?src-supplier=Digi-Key; ComponentLink1Description: http://www.st.com/content/ccc/resource/technical/document/datasheet/14/ad/1c/bd/db/a9/4a/fc/DM00079435.pdf/files/DM00079435.pdf/jcr:content/translations/en.DM00079435.pdf?src-supplier=Digi-Key; ComponentLink2URL: http://www.mouser.com/ds/2/389/stgb30v60df-956007.pdf?src-supplier=Mouser; ComponentLink2Description: http://www.mouser.com/ds/2/389/stgb30v60df-956007.pdf?src-supplier=Mouser; ComponentLink3URL: http://www.st.com/st-web-ui/static/active/en/resource/technical/document/datasheet/DM00079435.pdf?src-supplier=Avnet; ComponentLink3Description: http://www.st.com/st-web-ui/static/active/en/resource/technical/document/datasheet/DM00079435.pdf?src-supplier=Avnet; ComponentLink4URL: http://components.arrow.com/part/dataview/0323_06933392?src-supplier=Arrow+Europe; ComponentLink4Description: http://components.arrow.com/part/dataview/0323_06933392?src-supplier=Arrow+Europe; Supplier Part Number 1: 497-15120-6-ND
footprint DPAK2_IGBT (D2-PAK, 3-Pads, Body 7.78x8.56mm (max), IPC Medium Density)
pins: 1, 2, 3

## STL12N60M2
designator Q?
MOSFET N-CH 600V 6.5A POWERFLAT; Manufacturer: STMicroelectronics; Rds On Max: 495mR; Input Capacitance: 538pF; Max Power Dissipation: 52W; Supplier 1: Digi-Key; Manufacturer Part Number: STL12N60M2; Stock 1: 2323; Pricing 1: 1=1.67, 10=1.491, 25=1.4156, 100=1.1628, 500=0.96056, 1000=0.8043 (USD); Mount: Surface Mount; Number of Pins: 8; Min Operating Temperature: -55°C; Max Operating Temperature: 150°C; Packaging: Tape and Reel; Drain to Source Voltage (Vdss): 600V; Continuous Drain Current (ID): 6.5A; ComponentLink1URL: http://www.st.com/content/ccc/resource/technical/document/datasheet/65/14/17/85/17/67/44/ac/DM00187264.pdf/files/DM00187264.pdf/jcr:content/translations/en.DM00187264.pdf?src-supplier=Digi-Key; ComponentLink1Description: http://www.st.com/content/ccc/resource/technical/document/datasheet/65/14/17/85/17/67/44/ac/DM00187264.pdf/files/DM00187264.pdf/jcr:content/translations/en.DM00187264.pdf?src-supplier=Digi-Key; ComponentLink2URL: http://www.mouser.com/ds/2/389/stl12n60m2-956130.pdf?src-supplier=Mouser; ComponentLink2Description: http://www.mouser.com/ds/2/389/stl12n60m2-956130.pdf?src-supplier=Mouser; Supplier Part Number 1: 497-16039-6-ND
footprint POWERFLAT-FET
pins: 1, 2, 3

## STWD100PYW83F
designator U?
IC WDT CIRCUIT SOT323-5; Manufacturer: STMicroelectronics; Nominal Supply Current: 13uA; Max Supply Voltage: 5.5V; Max Power Dissipation: 320mW; Min Supply Voltage: 2.7V; Number of Voltages Monitored: 1; Reset: Active Low; Reset Timeout: 1.12s; Output: TOTEM-POLE; Supplier 1: Digi-Key; Manufacturer Part Number: STWD100PYW83F; Stock 1: 10672; Pricing 1: 1=0.87, 10=0.763, 25=0.7164, 100=0.5846, 250=0.543, 500=0.46214, 1000=0.38148 (USD); Mount: Surface Mount; Case/Package: SC; Number of Pins: 5; Weight: 0.000705oz; Min Operating Temperature: -40°C; Max Operating Temperature: 125°C; Package Quantity: 1; Packaging: Tape and Reel; Number of Timers/Counters: 1; Type: Watchdog Circuit; Series: -; Supply Current: 13uA; Length: 2.2mm; Width: 1.35mm; Height: 1mm; REACH SVHC: No SVHC; Lead Free: Lead Free; RoHS Compliant: Yes; ComponentLink1URL: http://www.st.com/content/ccc/resource/sales_and_marketing/promotional_material/flyer/52/2d/7f/6c/74/bb/43/70/flcarefree1213.pdf/files/flcarefree1213.pdf/jcr:content/translations/en.flcarefree1213.pdf?src-supplier=Digi-Key; ComponentLink1Description: http://www.st.com/content/ccc/resource/sales_and_marketing/promotional_material/flyer/52/2d/7f/6c/74/bb/43/70/flcarefree1213.pdf/files/flcarefree1213.pdf/jcr:content/translations/en.flcarefree1213.pdf?src-supplier=Digi-Key; ComponentLink2URL: http://www.st.com/content/ccc/resource/technical/document/datasheet/06/6a/b3/83/9a/c7/4f/22/CD00176077.pdf/files/CD00176077.pdf/jcr:content/translations/en.CD00176077.pdf?src-supplier=Digi-Key; ComponentLink2Description: http://www.st.com/content/ccc/resource/technical/document/datasheet/06/6a/b3/83/9a/c7/4f/22/CD00176077.pdf/files/CD00176077.pdf/jcr:content/translations/en.CD00176077.pdf?src-supplier=Digi-Key; ComponentLink3URL: http://www.st.com/web/en/resource/technical/document/datasheet/CD00176077.pdf?src-supplier=Future+Electronics; ComponentLink3Description: http://www.st.com/web/en/resource/technical/document/datasheet/CD00176077.pdf?src-supplier=Future+Electronics; ComponentLink4URL: http://www.produktinfo.conrad.com/datenblaetter/1100000-1199999/001184854-da-01-en-IC_CIRCU_STWD100PYW83F_SOT_323_5_STM.pdf?src-supplier=Conrad; ComponentLink4Description: http://www.produktinfo.conrad.com/datenblaetter/1100000-1199999/001184854-da-01-en-IC_CIRCU_STWD100PYW83F_SOT_323_5_STM.pdf?src-supplier=Conrad; Supplier Part Number 1: 497-13372-1-ND
footprint SOT23-5-WATCHDOG (SOT23, 5-Leads, Body 2.90x2.80mm, Pitch 0.95mm, IPC Medium Density)
pins: 1 WDO_N, 2 GND, 3 Vcc, 4 WDI, 5 EN_N

## STWD100YNYWY3F
designator U?
IC WATCHDOG TIME CIRCUIT SOT23-5; Manufacturer: STMicroelectronics; Number of Voltages Monitored: 1; Reset: Active Low; Reset Timeout: 1.12s; Max Supply Voltage: 5.5V; Operating Supply Current: 13uA; Max Power Dissipation: 320mW; Min Supply Voltage: 2.7V; Supplier 1: Digi-Key; Manufacturer Part Number: STWD100YNYWY3F; Stock 1: 0; Pricing 1: 1=0.92, 10=0.819, 25=0.7776, 100=0.5971, 250=0.52768, 500=0.4999, 1000=0.4585 (USD); Mount: Surface Mount; Case/Package: SOT-23-5; Number of Pins: 5; Contact Plating: Gold; Min Operating Temperature: -40°C; Max Operating Temperature: 125°C; Package Quantity: 1; Packaging: Tape and Reel; Number of Monitored Inputs: 1; Type: Watchdog Circuit; Radiation Hardening: No; Lead Free: Lead Free; RoHS Compliant: Yes; ComponentLink1URL: http://www.st.com/content/ccc/resource/technical/document/datasheet/06/6a/b3/83/9a/c7/4f/22/CD00176077.pdf/files/CD00176077.pdf/jcr:content/translations/en.CD00176077.pdf?src-supplier=Digi-Key; ComponentLink1Description: http://www.st.com/content/ccc/resource/technical/document/datasheet/06/6a/b3/83/9a/c7/4f/22/CD00176077.pdf/files/CD00176077.pdf/jcr:content/translations/en.CD00176077.pdf?src-supplier=Digi-Key; ComponentLink2URL: http://www.st.com/content/ccc/resource/sales_and_marketing/promotional_material/flyer/52/2d/7f/6c/74/bb/43/70/flcarefree1213.pdf/files/flcarefree1213.pdf/jcr:content/translations/en.flcarefree1213.pdf?src-supplier=Digi-Key; ComponentLink2Description: http://www.st.com/content/ccc/resource/sales_and_marketing/promotional_material/flyer/52/2d/7f/6c/74/bb/43/70/flcarefree1213.pdf/files/flcarefree1213.pdf/jcr:content/translations/en.flcarefree1213.pdf?src-supplier=Digi-Key; ComponentLink3URL: http://www.st.com/st-web-ui/static/active/en/resource/technical/document/datasheet/CD00176077.pdf?src-supplier=Avnet; ComponentLink3Description: http://www.st.com/st-web-ui/static/active/en/resource/technical/document/datasheet/CD00176077.pdf?src-supplier=Avnet; Supplier Part Number 1: 497-14411-1-ND
footprint SOT23-5-WATCHDOG (SOT23, 5-Leads, Body 2.90x2.80mm, Pitch 0.95mm, IPC Medium Density)
pins: 1 WDO_N, 2 GND, 3 Vcc, 4 WDI, 5 EN_N

## SZMMSZ4689T1G
designator Z?, comment 5V1
DIODE ZENER 5.1V 500MW SOD123; Manufacturer: ON Semiconductor; Manufacturer Part Number: SZMMSZ4689T1G; Tolerance: 5%; Max Reverse Leakage Current: 10uA; Test Current: 50uA; Element Configuration: Single; ESD Protection: Yes; Supplier 1: Digi-Key; Stock 1: 59493; Pricing 1: 1=0.37, 10=0.274, 100=0.1551, 500=0.10272, 1000=0.07875 (USD); Case/Package: SOD-123-2; Number of Pins: 2; Contact Plating: Tin,Matte; Min Operating Temperature: -55°C; Max Operating Temperature: 150°C; Package Quantity: 3000; Max Power Dissipation: 500mW; Packaging: Tape and Reel; Zener Voltage: 5.1V; Voltage Tolerance: 5%; Power Dissipation: 500mW; Series: -; Length: 2.84mm; Width: 1.8mm; Height: 1.25mm; Radiation Hardening: No; REACH SVHC: No SVHC; Lead Free: Lead Free; RoHS Compliant: Yes; ComponentLink1URL: http://www.onsemi.com/pub/Collateral/MMSZ4678T1-D.PDF?src-supplier=Avnet; ComponentLink1Description: http://www.onsemi.com/pub/Collateral/MMSZ4678T1-D.PDF?src-supplier=Avnet; ComponentLink2URL: http://www.onsemi.com/pub/Collateral/MMSZ4678T1-D.PDF?src-supplier=Digi-Key; ComponentLink2Description: http://www.onsemi.com/pub/Collateral/MMSZ4678T1-D.PDF?src-supplier=Digi-Key; Supplier Part Number 1: SZMMSZ4689T1GOSCT-ND
footprint SOD-123 (SODFL, 2-Leads, Body 1.60x3.71mm, IPC Medium Density)
pins: 1, 2

## TAR5S50TE85LF
designator U?, comment 200mA
IC REG LINEAR 5V 200MA SMV; Manufacturer: Toshiba; Manufacturer Part Number: TAR5S50TE85LF; Number of Outputs: 1; Min Input Voltage: 5.2V; Max Input Voltage: 15V; Max Power Dissipation: 380mW; Polarity: Positive; Quiescent Current: 850uA; Output Type: Fixed; Supplier 1: Digi-Key; Stock 1: 5950; Pricing 1: 1=0.45, 10=0.386, 25=0.36, 100=0.2879, 250=0.26732, 500=0.2262, 1000=0.17479 (USD); Mount: Surface Mount; Number of Pins: 5; Min Operating Temperature: -40°C; Max Operating Temperature: 85°C; Max Output Current: 200mA; Output Voltage: 5V; Radiation Hardening: No; ComponentLink1URL: http://www.semicon.toshiba.co.jp/info/docget.jsp?type=datasheet&lang=en&pid=TAR5S15&src-supplier=Avnet; ComponentLink1Description: http://www.semicon.toshiba.co.jp/info/docget.jsp?type=datasheet&lang=en&pid=TAR5S15&src-supplier=Avnet; ComponentLink2URL: https://toshiba.semicon-storage.com/info/docget.jsp?did=766&amp;prodName=TAR5S40&src-supplier=Digi-Key; ComponentLink2Description: https://toshiba.semicon-storage.com/info/docget.jsp?did=766&amp;prodName=TAR5S40&src-supplier=Digi-Key; ComponentLink3URL: https://toshiba.semicon-storage.com/info/docget.jsp?did=766&prodName=TAR5S40&src-supplier=Digi-Key; ComponentLink3Description: https://toshiba.semicon-storage.com/info/docget.jsp?did=766&prodName=TAR5S40&src-supplier=Digi-Key; Supplier Part Number 1: TAR5S50TE85LFCT-ND
footprint SOT-753-ldo (SOT23, 5-Leads, Body 2.90x2.75mm, Pitch 0.95mm, IPC Medium Density)
pins: 1 CTRL (in), 2 GND, 3 NOISE, 4 VIN (in), 5 VOUT (out)